# EAGLE library part TSV712 (library OP_AMP)
The TSV71x series of single, dual, and quad operational amplifiers offer low-voltage operation, rail-to-rail input and output, and excellent accuracy (Vio lower than 200 μV at 25 ° C). These devices benefit from STMicroelectronics® 5 V CMOS technology and offer an excellent speed/power consumption ratio (150 kHz typical gain bandwidth) while consuming less than 14 μA at 5 V. The TSV71x series also feature an ultra-low input bias current. The single version (TSV711), the dual version (TSV712), and the quad version (TSV714) are housed in the smallest industrial packages. These characteristics make the TSV71x family ideal for sensor interfaces, battery-powered and portable applications, and active filtering.
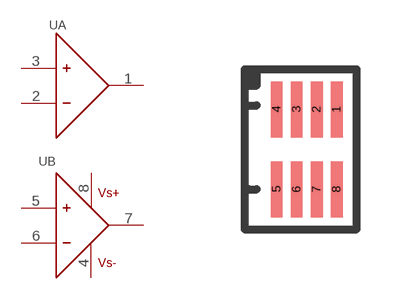
[diagram p3: symbol with the pads of DFN-8(2X2); footprint DFN-8(2X2)]

Designator prefix U; gates A=OP_AMP B=OP_AMP_PWR

## TSV712IQ2T  [DFN-8(2X2)]
1  A:OUT
2  A:IN-
3  A:IN+
4  B:VS-
5  B:IN+
6  B:IN-
7  B:OUT
8  B:VS+

## Footprint DFN-8(2X2) (pad centres in mm)
smd 0.3 x 1.4: 1 1.5,2; 2 1,2; 3 0.5,2; 4 0,2; 5 0,0; 6 0.5,0; 7 1,0; 8 1.5,0